# EAGLE library part IR2110STRPBF (library IR2110STRPBF)
Infineon IR2110STRPBF Dual High and Low Side MOSFET Power Driver, 2.5A 16-Pin, SOIC Source: Datasheet <https://componentsearchengine.com/Datasheets/1/IR2110STRPBF.pdf>
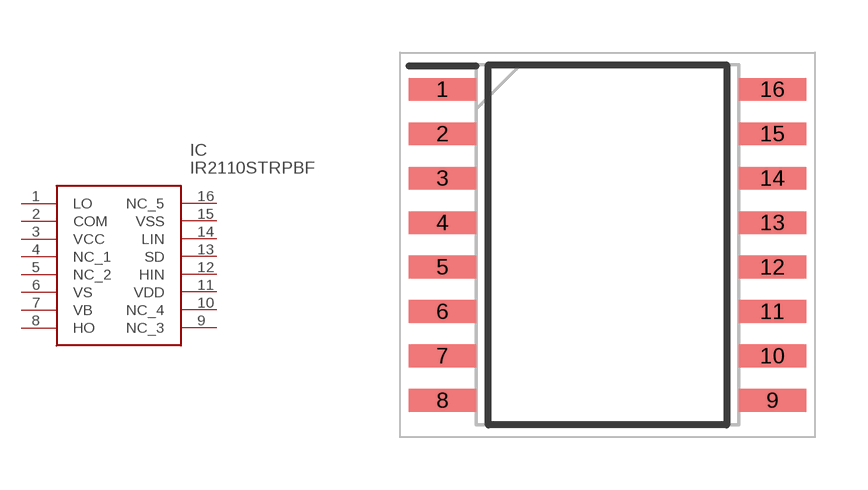
[diagram p0: symbol with the pads of SOIC127P1032X265-16N; footprint SOIC127P1032X265-16N]

Designator prefix IC

## IR2110STRPBF (Description: Infineon IR2110STRPBF Dual High and Low Side MOSFET Power Driver, 2.5A 16-Pin, SOIC; Height: 2.65mm; Manufacturer_Name: Infineon; Manufacturer_Part_Number: IR2110STRPBF; Mouser_Part_Number: 942-IR2110STRPBF; Mouser_Price-Stock: https://www.mouser.com/Search/Refine.aspx?Keyword=942-IR2110STRPBF)  [SOIC127P1032X265-16N]
1  LO
2  COM
3  VCC
4  NC_1
5  NC_2
6  VS
7  VB
8  HO
9  NC_3
10  NC_4
11  VDD
12  HIN
13  SD
14  LIN
15  VSS
16  NC_5

## Footprint SOIC127P1032X265-16N (pad centres in mm)
IR2110STRPBF
smd 1.925 x 0.65: 1 -4.712,4.445; 2 -4.712,3.175; 3 -4.712,1.905; 4 -4.712,0.635; 5 -4.712,-0.635; 6 -4.712,-1.905; 7 -4.712,-3.175; 8 -4.712,-4.445; 9 4.712,-4.445; 10 4.712,-3.175; 11 4.712,-1.905; 12 4.712,-0.635; 13 4.712,0.635; 14 4.712,1.905; 15 4.712,3.175; 16 4.712,4.445